# Altium footprint library Led _ Buzzer.PcbLib: 4 footprints
Each footprint in its own frame and in the unit in brackets; x right, y up, seen from the top. Pads: shape width x height; smd on the part's side, far side on the other; paste and mask are expansions set on the pad; w line width, h text height; cw(c..) or ccw(c..) is an arc to the next point about the centre after c.
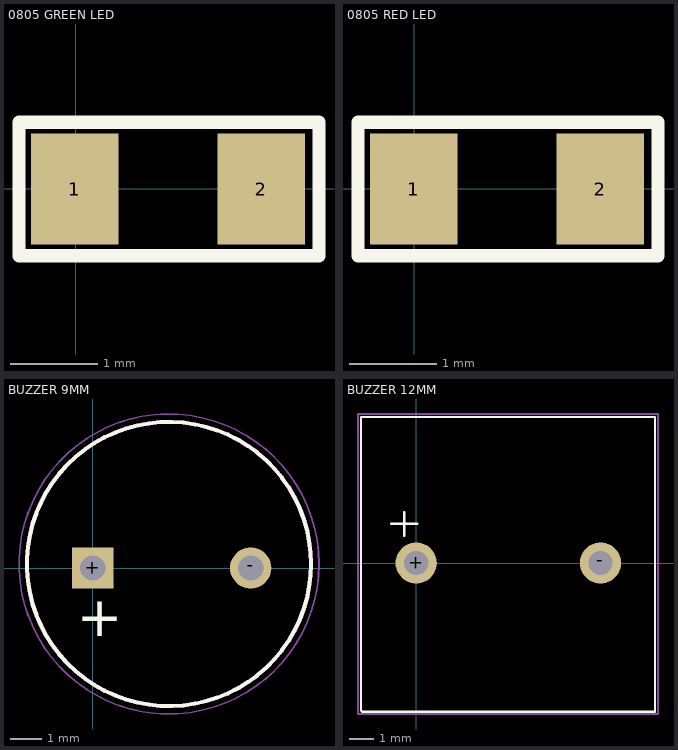
[diagram p0: the footprints below, top view; thin cyan lines are the x and y axes]

## 0805 GREEN LED [mm]
pads (2):
  rect 1x1.27 smd: 1(-0.016,0) 2(2.118,0)
Top Overlay:
  lines w0.152: -0.651,-0.762 2.778,-0.762 2.778,0.762 -0.651,0.762 -0.651,-0.762
3D body "0805 Green LED.STEP": height 1.1, standoff 0, extent -0.01,-0.625 2.01,0.625

## 0805 RED LED [mm]
pads (2):
  rect 1x1.27 smd: 1(-0.006,0) 2(2.127,0)
Top Overlay:
  lines w0.152: -0.641,-0.762 2.788,-0.762 2.788,0.762 -0.641,0.762 -0.641,-0.762
3D body "0805 Red LED.STEP": height 1.1, standoff 0, extent 0,-0.625 2.02,0.625

## BUZZER 9MM [mm]
pads (2):
  rect 1.308x1.308 hole 0.8: +(0,0)
  round 1.308 hole 0.8: -(5,0)
Top Overlay:
  circle w0.127: c2.413,0.127 r4.5
  text "+" at -0.508,-2.159 h1.27
Mechanical 13:
  circle w0.127: c2.413,0.127 r4.5
Mechanical 15:
  circle w0.05: c2.413,0.127 r4.75
3D body "Buzzer 9 mm.SLDPRT": height 5.5, standoff -5, extent -1.96,-4.5 7.04,4.5

## BUZZER 12MM [mm]
pads (2):
  round 1.7 hole 1 mask+0.05: +(0,0) -(7.6,0)
Top Overlay:
  lines w0.1: -1.025,1.625 0.05,1.625 ; -0.5,1.125 -0.5,2.1 ; -2.275,-6.075 -2.225,-6.125 9.85,-6.125 9.85,6.025 -2.275,6.025 -2.275,-6.075
Mechanical 3:
  lines w0.1: -2.4,-6.225 9.975,-6.225 9.975,6.15 -2.4,6.15 -2.4,-6.225
3D body "cem-1205c.stp": height 9.5, standoff -4.5, extent -2.2,-6.05 9.8,5.95